# Altium schematic symbol library HIGH AMP IGBT DRIVER.SCHLIB: 72 symbols (part 1 of 2)
Pins are listed as number, name and electrical type; pins without a type are passive.

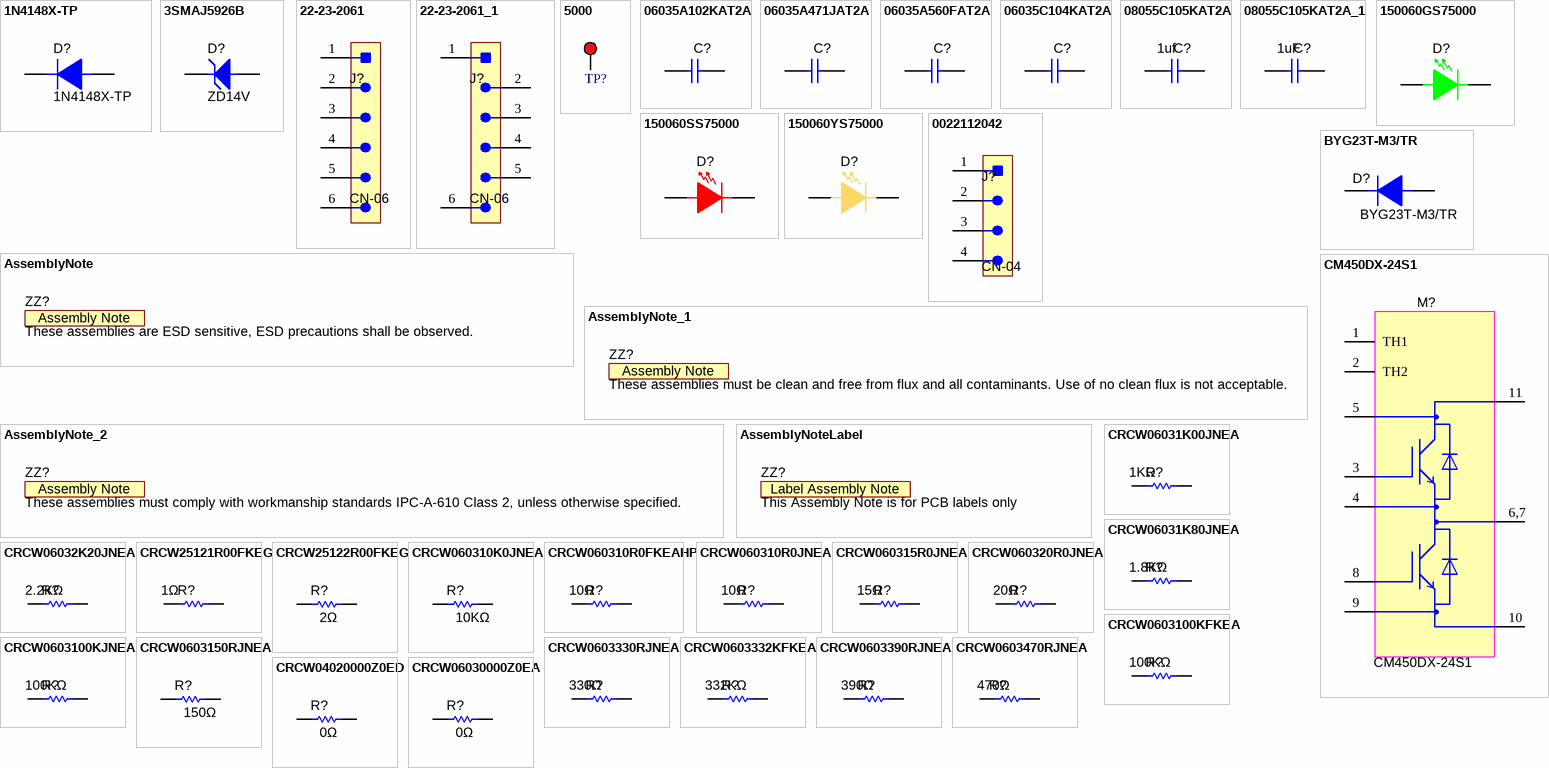
[diagram p0: symbols 1N4148X-TP to CRCW06030000Z0EA]

## 1N4148X-TP
designator D?
Diode, Switching, 75 V, 0.3 A, SOD-523; Manufacturer: Micro Commercial Components; U/M: EA; Vf_V: 1.25; Value: 75V; Value1: 0.3A; Value2: 1.25V; Io_A: 0.3; Vr_V: 75; TJmax_C: 150; SymbolVersion: 2008-12-08; PartNumber: 1N4148X-TP; PackageReference: SOD-523; CompType: Diode; MountType: SMT; Type: Switching; RoHS: Y; Published: 2008-06-26; Publisher: Texas Instruments; LatestRevisionDate: 2015-06-16; ComponentLink1Description: Datasheet link; ComponentLink1URL: http://www.mccsemi.com/up_pdf/1N4148X(SOD-523).PDF; Supplier 1: Digi-Key; Supplier Part Number 1: 1N4148XTPMSCT-ND; Supplier 2: Mouser; Supplier Part Number 2: 833-1N4148X-TP; Supplier 3: Newark; Supplier Part Number 3: 69R6666
signal-integrity model Diode
footprint SOD-523
pins: 1 K, 2 A

## 3SMAJ5926B
designator D?, comment ZD14V
Diode, Zener, 11 V, DO-214AC; PartNumber: SMAJ14CA; Manufacturer: Littelfuse Inc.; SymbolCreator: x0199378; SymbolVersion: 2015-06-17; CompType: Zener; MountType: SMT; RoHS: Y; ComponentLink1Description: Datasheet link; ComponentLink1URL: http://www.mccsemi.com/up_pdf/3SMAJ5913B~3SMAJ5943B%28DO-214AC%29.pdf
footprint SMA
pins: 1 K, 2 A

## 22-23-2061
designator J?, comment CN-06
Header, 2.54 mm, 6x1, Tin, TH; Manufacturer: Molex; SymbolCreator: a0412235; U/M: EA; SymbolVersion: 2013-08-30; PartNumber: 22-23-2061; PackageReference: Header, 2.54mm, 6x1, TH; ClassName: Header; CompType: Header; RoHS: Y; MountType: TH; ComponentLink1Description: Datasheet Link; ComponentLink1URL: http://www.molex.com/pdm_docs/sd/022232061_sd.pdf; Value: CN-06; Publisher: Texas Instruments; LatestRevisionDate: 2015-04-17; Supplier 1: Digi-Key; Supplier Part Number 1: WM4204-ND; Supplier 2: Mouser; Supplier Part Number 2: 538-22-23-2061; Supplier 3: Farnell; Supplier Part Number 3: 1462922
footprint Molex_22-23-2061
pins: 1, 2, 3, 4, 5, 6

## 22-23-2061_1
designator J?, comment CN-06
Header, 2.54 mm, 6x1, Tin, TH; Manufacturer: Molex; SymbolCreator: a0412235; U/M: EA; SymbolVersion: 2013-08-30; PartNumber: 22-23-2061; PackageReference: Header, 2.54mm, 6x1, TH; ClassName: Header; CompType: Header; RoHS: Y; MountType: TH; ComponentLink1Description: Datasheet Link; ComponentLink1URL: http://www.molex.com/pdm_docs/sd/022232061_sd.pdf; Value: CN-06; Publisher: Texas Instruments; LatestRevisionDate: 2015-04-17; Supplier 1: Digi-Key; Supplier Part Number 1: WM4204-ND; Supplier 2: Mouser; Supplier Part Number 2: 538-22-23-2061; Supplier 3: Farnell; Supplier Part Number 3: 1462922
footprint Molex_22-23-2061
pins: 1, 2, 3, 4, 5, 6

## 5000
designator TP?  (value not drawn)
Test Point, Miniature, Red, TH; Manufacturer: Keystone; CompType: Test Point Loop; U/M: EA; SymbolVersion: 2008-04-04; PartNumber: 5000; Value: Red; PackageReference: Red Miniature Testpoint; RoHS: Y; MountType: TH; ComponentLink1Description: Datasheet Link; ComponentLink1URL: http://www.keyelco.com/userAssets/file/M60-2p60.pdf; Publisher: Texas Instruments; LatestRevisionDate: 2014-11-22; Supplier 1: Digi-Key; Supplier Part Number 1: 5000K-ND
footprint Keystone5000
pins: 1

## 06035A102KAT2A
designator C?, comment 1000pF  (value not drawn)
CAP, CERM, 1000 pF, 50 V, +/- 10%, C0G/NP0, 0603; PartNumber: 06035A102KAT2A; Manufacturer: AVX; Polarized: N; CompType: Capacitor; Value: 50V 1000pF; U/M: EA; Cap_F: 0.000000001; Tolerance_%: 10; ESR_ohm: 0.048; Value1: 0.048 ohm; VDC_V: 50; Value2: 50V; TaMin_C: -55; TaMax_C: 125; Cap_Case: 0603; SymbolVersion: 2008-07-09; PackageReference: 0603; RoHS: Y; MountType: SMT; Technology: Ceramic; TempCo: C0G/NP0; Published: 2008-06-19; Publisher: Texas Instruments; LatestRevisionDate: 2015-04-23; ComponentLink1Description: Datasheet link; ComponentLink1URL: http://www.avx.com/docs/masterpubs/smccp.pdf; Supplier 1: Digi-Key; Supplier Part Number 1: 478-3718-1-ND; Supplier 2: Mouser; Supplier Part Number 2: 581-06035A102KAT2A; Supplier 3: Farnell; Supplier Part Number 3: 1582693
footprint 0603
pins: 1, 2

## 06035A471JAT2A
designator C?, comment 470pF  (value not drawn)
CAP, CERM, 470 pF, 50 V, +/- 5%, C0G/NP0, 0603; PartNumber: 06035A471JAT2A; Manufacturer: AVX; Polarized: N; CompType: Capacitor; Value: 50V 470pF; U/M: EA; Cap_F: 0.00000000047; Tolerance_%: 5; ESR_ohm: 0.063; Value1: 0.063 ohm; VDC_V: 50; Value2: 50V; TaMin_C: -55; TaMax_C: 125; Cap_Case: 0603; SymbolVersion: 2008-07-09; PackageReference: 0603; RoHS: Y; MountType: SMT; Technology: Ceramic; TempCo: C0G/NP0; Published: 2008-06-19; Publisher: Texas Instruments; LatestRevisionDate: 2015-06-13; ComponentLink1Description: Datasheet link; ComponentLink1URL: http://www.avx.com/docs/masterpubs/smccp.pdf; Supplier 1: Digi-Key; Supplier Part Number 1: 478-1183-1-ND; Supplier 2: Mouser; Supplier Part Number 2: 581-06035A471J; Supplier 3: Farnell; Supplier Part Number 3: 316672
footprint 0603
pins: 1, 2

## 06035A560FAT2A
designator C?, comment 56pF  (value not drawn)
CAP, CERM, 56 pF, 50 V, +/- 1%, C0G/NP0, 0603; PartNumber: 06035A560FAT2A; Manufacturer: AVX; Polarized: N; CompType: Capacitor; Value: 50V 56pF; U/M: EA; Cap_F: 0.000000000056; Tolerance_%: 1; Value1: Unknown; VDC_V: 50; Value2: 50V; TaMin_C: -55; TaMax_C: 125; Cap_Case: 0603; SymbolVersion: 2008-07-09; PackageReference: 0603; RoHS: Y; MountType: SMT; Technology: Ceramic; TempCo: C0G/NP0; Published: 2008-06-19; Publisher: Texas Instruments; LatestRevisionDate: 2015-06-13; ComponentLink1Description: Datasheet link; ComponentLink1URL: http://www.avx.com/docs/Catalogs/ccog.pdf; Supplier 1: Digi-Key; Supplier Part Number 1: 478-7922-1-ND; Supplier 2: Mouser; Supplier Part Number 2: 581-06035A560FAT2A; Supplier 3: Newark; Supplier Part Number 3: 11J1247
footprint 0603
pins: 1, 2

## 06035C104KAT2A
designator C?, comment 0.1 1uf  (value not drawn)
CAP, CERM, 0.1 µF, 50 V, +/- 10%, X7R, 0603; PartNumber: 06035C104KAT2A; Manufacturer: AVX; Polarized: N; CompType: Capacitor; Value: 50V 0.1uF; U/M: EA; Cap_F: 0.0000001; Tolerance_%: 10; Value1: Unknown; VDC_V: 50; Value2: 50V; TaMin_C: -55; TaMax_C: 125; Cap_Case: 0603; SymbolVersion: 2008-07-09; PackageReference: 0603; RoHS: Y; MountType: SMT; Technology: Ceramic; TempCo: X7R; Published: 2008-06-19; Publisher: Texas Instruments; LatestRevisionDate: 2015-04-23; ComponentLink1Description: Datasheet link; ComponentLink1URL: http://www.avx.com/docs/Catalogs/cx7r.pdf; Supplier 1: Digi-Key; Supplier Part Number 1: 478-5052-1-ND; Supplier 2: Mouser; Supplier Part Number 2: 581-06035C104KAT2A; Supplier 3: Farnell; Supplier Part Number 3: 1301804
footprint 0603
pins: 1, 2

## 08055C105KAT2A
designator C?, comment 1uf
CAP, CERM, 1 µF, 50 V, +/- 10%, X7R, 0805; PartNumber: 08055C105KAT2A; Manufacturer: AVX; Polarized: N; CompType: Capacitor; Value: 50V 1uF; U/M: EA; Cap_F: 0.000001; Tolerance_%: 10; Value1: Unknown; VDC_V: 50; Value2: 50V; TaMin_C: -55; TaMax_C: 125; Cap_Case: 0805; SymbolVersion: 2008-07-09; PackageReference: 0805; RoHS: Y; MountType: SMT; Technology: Ceramic; TempCo: X7R; Published: 2008-06-19; Publisher: Texas Instruments; LatestRevisionDate: 2015-05-02; ComponentLink1Description: Datasheet link; ComponentLink1URL: http://www.avx.com/docs/Catalogs/cx7r.pdf; Supplier 1: Digi-Key; Supplier Part Number 1: 478-7956-1-ND; Supplier 2: Mouser; Supplier Part Number 2: 581-08055C105KAT2A; Supplier 3: Farnell; Supplier Part Number 3: 2094043
footprint 0805_HV
pins: 1, 2

## 08055C105KAT2A_1
designator C?, comment 1uF
DNP; Manufacturer: AVX; Polarized: N; CompType: Capacitor; U/M: EA; Cap_F: 0.000001; Tolerance_%: 10; Value1: Unknown; VDC_V: 50; Value2: 50V; TempCo: X7R; TaMin_C: -55; TaMax_C: 125; Cap_Case: 0805; ValueDisplayed: 1µF; SymbolVersion: 2008-07-09; Value: 1uF; PartNumber: DNP; PackageReference: 0805; RoHS: Y; MountType: SMT; Technology: Ceramic; Published: 2008-06-19; Publisher: Texas Instruments; LatestRevisionDate: 2015-05-02; ComponentLink1Description: Datasheet link; ComponentLink1URL: http://www.avx.com/docs/Catalogs/cx7r.pdf; Supplier 1: Digi-Key; Supplier Part Number 1: 478-7956-1-ND; Supplier 2: Mouser; Supplier Part Number 2: 581-08055C105KAT2A; Supplier 3: Farnell; Supplier Part Number 3: 2094043
footprint 0805_HV
pins: 1, 2

## 150060GS75000
designator D?, comment LED  (value not drawn)
LED, Green, SMD; Manufacturer: Wurth Elektronik; PartNumber: 150060GS75000; Type: InGaN; Vf_V: 3.2; Value2: 3.2V; Io_A: 0.02; Tjmax_C: 85; Value1: W; Angle: 140; U/M: EA; CompType: LED; SymbolVersion: 2008-11-06; MountType: SMT; RoHS: Y; PackageReference: LED_0603; Color: Green; Published: 2008-07-11; Publisher: Texas Instruments; ComponentLink1URL: http://katalog.we-online.de/led/datasheet/150060GS75000.pdf; ComponentLink1Description: Datasheet link; LatestRevisionDate: 2015-04-23; Supplier 1: Digi-Key; Supplier Part Number 1: 732-4971-1-ND; Supplier 2: Mouser; Supplier Part Number 2: 710-150060GS75000; Supplier 3: Farnell; Supplier Part Number 3: 2322070; VALUE: Green
footprint WL-SMCW_GREEN
pins: 1 K, 2 A

## 150060SS75000
designator D?, comment LED  (value not drawn)
LED, Super Red, SMD; Manufacturer: Wurth Elektronik; PartNumber: 150060SS75000; Type: AlInGaP; Vf_V: 1.9; Value2: 1.9V; Io_A: 0.02; Value1: W; U/M: EA; CompType: LED; SymbolVersion: 2008-11-06; MountType: SMT; RoHS: Y; PackageReference: LED_0603; Color: super red; Published: 2008-07-11; Publisher: Texas Instruments; ComponentLink1URL: http://katalog.we-online.de/led/datasheet/150060SS75000.pdf; ComponentLink1Description: Datasheet link; LatestRevisionDate: 2015-04-23; Supplier 1: Digi-Key; Supplier Part Number 1: 732-4979-1-ND; VALUE: Super Red
footprint WL-SMCW_RED
pins: 1 K, 2 A

## 150060YS75000
designator D?, comment LED  (value not drawn)
LED, Yellow, SMD; Manufacturer: Wurth Elektronik; PartNumber: 150060YS75000; Type: AlInGaP; Vf_V: 2; Value2: 2V; Io_A: 0.02; Value1: W; U/M: EA; CompType: LED; SymbolVersion: 2008-11-06; MountType: SMT; RoHS: Y; PackageReference: LED_0603; Color: yellow; Published: 2008-07-11; Publisher: Texas Instruments; ComponentLink1URL: http://katalog.we-online.de/led/datasheet/150060YS75000.pdf; ComponentLink1Description: Datasheet link; LatestRevisionDate: 2015-04-23; Supplier 1: Digi-Key; Supplier Part Number 1: 732-4981-1-ND; VALUE: Yellow
footprint WL-SMCW_YELLOW
pins: 1 K, 2 A

## 0022112042
designator J?, comment CN-04
Header (friction lock), 100mil, 4x1, Gold, TH; PartNumber: 0022112042; Manufacturer: Molex; SymbolCreator: a0412235; U/M: EA; SymbolVersion: 2013-08-30; PackageReference: Header 4x1 keyed; CompType: Header; RoHS: Y; MountType: TH; ComponentLink1Description: Datasheet Link; ComponentLink1URL: http://www.molex.com/pdm_docs/sd/022112042_sd.pdf; Publisher: Texas Instruments; LatestRevisionDate: 2015-04-17; Supplier 1: Digi-Key; Supplier Part Number 1: WM2702-ND
footprint CONN_22112042
pins: 1, 2, 3, 4

## AssemblyNote
designator ZZ?, comment These assemblies are ESD sensitive, ESD precautions shall be observed.  (no BOM)
SymbolCreator: codlsc; CompType: AssemblyNote; SymbolVersion: 2010-05-18; ClassName: AssemblyNote; Publisher: Texas Instruments; LatestRevisionDate: 2012-06-14; LatestRevisionNote: Initial Version; Alternate Manufacturer: -; Alternate PartNumber: -
footprint AssemblyNote
text: Assembly Note

## AssemblyNote_1
designator ZZ?, comment These assemblies must be clean and free from flux and all contaminants. Use of no clean flux is not acceptable.  (no BOM)
SymbolCreator: codlsc; CompType: AssemblyNote; SymbolVersion: 2010-05-18; ClassName: AssemblyNote; Publisher: Texas Instruments; LatestRevisionDate: 2012-06-14; LatestRevisionNote: Initial Version; Alternate Manufacturer: -; Alternate PartNumber: -
footprint AssemblyNote
text: Assembly Note

## AssemblyNote_2
designator ZZ?, comment These assemblies must comply with workmanship standards IPC-A-610 Class 2, unless otherwise specified.  (no BOM)
SymbolCreator: codlsc; CompType: AssemblyNote; SymbolVersion: 2010-05-18; ClassName: AssemblyNote; Publisher: Texas Instruments; LatestRevisionDate: 2012-06-14; LatestRevisionNote: Initial Version; Alternate Manufacturer: -; Alternate PartNumber: -
footprint AssemblyNote
text: Assembly Note

## AssemblyNoteLabel
designator ZZ?, comment This Assembly Note is for PCB labels only  (no BOM)
SymbolCreator: a0412235; SymbolVersion: 2012-06-14; CompType: AssemblyNote; ClassName: AssemblyNote; Publisher: Texas Instruments; LatestRevisionDate: 2012-07-31; LatestRevisionNote: Initial Version; Alternate Manufacturer: -; Alternate PartNumber: -
footprint AssemblyNoteLabel
text: Label Assembly Note

## BYG23T-M3/TR
designator D?
Diode, Ultrafast, 1300 V, 1 A, SMA; Manufacturer: Vishay-Semiconductor; U/M: EA; Vf_V: 1.9; Value1: 1A; Value2: 1.9V; Io_A: 1; Vr_V: 1300; TJmax_C: 150; SymbolVersion: 2008-12-08; PartNumber: BYG23T-M3/TR; PackageReference: SMA; CompType: Diode; Value: Ultrafast; MountType: SMT; Type: Ultrafast; RoHS: Y; Published: 2008-06-26; Publisher: Texas Instruments; LatestRevisionDate: 2015-06-16; ComponentLink1Description: Datasheet link; ComponentLink1URL: http://www.vishay.com/docs/89429/byg23t.pdf; Supplier 1: Digi-Key; Supplier Part Number 1: BYG23T-M3/CT-ND; Supplier 2: Mouser; Supplier Part Number 2: 78-BYG23T-M3/TR; Supplier 3: Farnell; Supplier Part Number 3: 2115184
footprint SMA
pins: 1 K, 2 A

## CM450DX-24S1
designator M?
IGBT, MOD NX, 450A, 1200V, DUAL; Manufacturer: POWEREX INC; SymbolCreator: x0199378; PartNumber: CM450DX-24S1; MountType: TH; ComponentLink1Description: Datasheet link; ComponentLink1URL: http://www.pwrx.com/pwrx/docs/cm450dx-24s1_e.pdf; RoHS: Y; SymbolVersion: 2015-04-10
footprint MITSUBISHI_CM450DX-24S1
pins: 1 TH1, 2 TH2, 3 G1, 4 ES1, 5 CS1, 6,7 C2E1, 8 G2, 9 ES2, 10 E2, 11

## CRCW06031K00JNEA
designator R?, comment 1KΩ
RES, 1.0 k, 5%, 0.1 W, 0603; PartNumber: CRCW06031K00JNEA; Manufacturer: Vishay-Dale; CompType: Resistor; Value: 1.0k; Res_ohm: 1000; Value_Code: 1k00; Tolerance_%: 5; Power_W: 0.1; Value2: 0.1W; VDC_V: 75; TempCo: 200 ppm/C; EIA_Code: E24; U/M: EA; SymbolVersion: 2009-05-29; PackageReference: 0603; RoHS: Y; Value1: 5%; MountType: SMT; Technology: Thick Film; Published: 2008-06-26; Publisher: Texas Instruments; LatestRevisionDate: 2015-04-17; ComponentLink1Description: Datasheet link; ComponentLink1URL: http://www.vishay.com/docs/20035/dcrcwe3.pdf; Supplier 1: Digi-Key; Supplier Part Number 1: 541-1.0KGCT-ND; Supplier 2: Mouser; Supplier Part Number 2: 71-CRCW0603J-1.0K-E3; Supplier 3: Farnell; Supplier Part Number 3: 1652851; ValueDisplayed: 1.0k
footprint 0603
pins: 1, 2

## CRCW06031K80JNEA
designator R?, comment 1.8KΩ
RES, 1.8 k, 5%, 0.1 W, 0603; PartNumber: CRCW06031K80JNEA; Manufacturer: Vishay-Dale; CompType: Resistor; Value: 1.8k; Res_ohm: 1800; Value_Code: 1k80; Tolerance_%: 5; Power_W: 0.1; Value2: 0.1W; VDC_V: 75; TempCo: 200 ppm/C; EIA_Code: E24; U/M: EA; SymbolVersion: 2009-05-29; PackageReference: 0603; RoHS: Y; Value1: 5%; MountType: SMT; Technology: Thick Film; Published: 2008-06-26; Publisher: Texas Instruments; LatestRevisionDate: 2015-06-13; ComponentLink1Description: Datasheet link; ComponentLink1URL: http://www.vishay.com/docs/20035/dcrcwe3.pdf; Supplier 1: Digi-Key; Supplier Part Number 1: 541-1.8KGCT-ND; Supplier 2: Mouser; Supplier Part Number 2: 71-CRCW0603J-1.8K-E3; Supplier 3: Farnell; Supplier Part Number 3: 1514705; ValueDisplayed: 1.8k
footprint 0603
pins: 1, 2

## CRCW06032K20JNEA
designator R?, comment 2.2KΩ
RES, 2.2 k, 5%, 0.1 W, 0603; PartNumber: CRCW06032K20JNEA; Manufacturer: Vishay-Dale; CompType: Resistor; Value: 2.2k; Res_ohm: 2200; Value_Code: 2k20; Tolerance_%: 5; Power_W: 0.1; Value2: 0.1W; VDC_V: 75; TempCo: 200 ppm/C; EIA_Code: E24; U/M: EA; SymbolVersion: 2009-05-29; PackageReference: 0603; RoHS: Y; Value1: 5%; MountType: SMT; Technology: Thick Film; Published: 2008-06-26; Publisher: Texas Instruments; LatestRevisionDate: 2015-06-13; ComponentLink1Description: Datasheet link; ComponentLink1URL: http://www.vishay.com/docs/20035/dcrcwe3.pdf; Supplier 1: Digi-Key; Supplier Part Number 1: 541-2.2KGCT-ND; Supplier 2: Farnell; Supplier Part Number 2: 1652868; Supplier 3: Newark; Supplier Part Number 3: 59M6776; ValueDisplayed: 2.2k
footprint 0603
pins: 1, 2

## CRCW25121R00FKEG
designator R?, comment 1Ω
RES, 1.00, 1%, 1 W, 2512; PartNumber: CRCW25121R00FKEG; Manufacturer: Vishay-Dale; CompType: Resistor; Value: 1.00; Res_ohm: 1; Value_Code: 1R00; Value2: 1W; VDC_V: 500; TempCo: 100 ppm/C; EIA_Code: E96; U/M: EA; SymbolVersion: 2009-05-29; PackageReference: 2512; RoHS: Y; Tolerance_%: 1; Value1: 1%; Power_W: 1; MountType: SMT; Technology: Thick Film; Published: 2008-06-26; Publisher: Texas Instruments; LatestRevisionDate: 2015-04-21; ComponentLink1Description: Datasheet link; ComponentLink1URL: http://www.vishay.com/doc?20035; Supplier 1: Digi-Key; Supplier Part Number 1: 541-1.00AAFCT-ND; ValueDisplayed: 1.00
footprint 2512
pins: 1, 2

## CRCW25122R00FKEG
designator R?, comment 2Ω
RES, 2.00, 1%, 1 W, 2512; PartNumber: CRCW25122R00FKEG; Manufacturer: Vishay-Dale; CompType: Resistor; Value: 2.00; Res_ohm: 2; Value_Code: 2R00; Tolerance_%: 1; Value2: 1W; VDC_V: 500; TempCo: 100 ppm/C; EIA_Code: E96; U/M: EA; SymbolVersion: 2009-05-29; PackageReference: 2512; RoHS: Y; Value1: 1%; Power_W: 1; MountType: SMT; Technology: Thick Film; Published: 2008-06-26; Publisher: Texas Instruments; LatestRevisionDate: 2015-04-21; ComponentLink1Description: Datasheet link; ComponentLink1URL: http://www.vishay.com/doc?20035; Supplier 1: Digi-Key; Supplier Part Number 1: 541-2.00AFCT-ND; ValueDisplayed: 2.00
footprint 2512
pins: 1, 2

## CRCW060310K0JNEA
designator R?, comment 10KΩ
RES, 10 k, 5%, 0.1 W, 0603; PartNumber: CRCW060310K0JNEA; Manufacturer: Vishay-Dale; CompType: Resistor; Value: 10k; Res_ohm: 10000; Value_Code: 10k0; Tolerance_%: 5; Power_W: 0.1; Value2: 0.1W; VDC_V: 75; TempCo: 200 ppm/C; EIA_Code: E24; U/M: EA; SymbolVersion: 2009-05-29; PackageReference: 0603; RoHS: Y; Value1: 5%; MountType: SMT; Technology: Thick Film; Published: 2008-06-26; Publisher: Texas Instruments; LatestRevisionDate: 2015-04-17; ComponentLink1Description: Datasheet link; ComponentLink1URL: http://www.vishay.com/docs/20035/dcrcwe3.pdf; Supplier 1: Digi-Key; Supplier Part Number 1: 541-10KGCT-ND; Supplier 2: Mouser; Supplier Part Number 2: 71-CRCW0603J-10K-E3; Supplier 3: Farnell; Supplier Part Number 3: 1469749; ValueDisplayed: 10k
footprint 0603
pins: 1, 2

## CRCW060310R0FKEAHP
designator R?, comment 10Ω
RES, 10.0, 1%, 0.25 W, 0603; PartNumber: CRCW060310R0FKEAHP; Manufacturer: Vishay-Dale; CompType: Resistor; Value: 10.0; Res_ohm: 10; Value_Code: 10R0; Tolerance_%: 1; Power_W: 0.25; Value2: 0.25W; VDC_V: 75; TempCo: 100 ppm/C; EIA_Code: E96; U/M: EA; SymbolVersion: 2009-05-29; PackageReference: 0603; RoHS: Y; Value1: 1%; MountType: SMT; Technology: Thick Film; Published: 2008-06-26; Publisher: Texas Instruments; LatestRevisionDate: 2015-06-13; ComponentLink1Description: Datasheet link; ComponentLink1URL: http://www.vishay.com/docs/20043/crcwhpe3.pdf; Supplier 1: Digi-Key; Supplier Part Number 1: 541-10.0SCT-ND; Supplier 2: Mouser; Supplier Part Number 2: 71-CRCW060310R0FKEAH; ValueDisplayed: 10.0
footprint 0603
pins: 1, 2

## CRCW060310R0JNEA
designator R?, comment 10Ω
RES, 10, 5%, 0.1 W, 0603; PartNumber: CRCW060310R0JNEA; Manufacturer: Vishay-Dale; CompType: Resistor; Value: 10; Value_Code: 10R0; Tolerance_%: 5; Power_W: 0.1; Value2: 0.1W; VDC_V: 75; TempCo: 200 ppm/C; EIA_Code: E24; U/M: EA; SymbolVersion: 2009-05-29; PackageReference: 0603; RoHS: Y; Res_ohm: 10; Value1: 5%; MountType: SMT; Technology: Thick Film; Published: 2008-06-26; Publisher: Texas Instruments; LatestRevisionDate: 2015-06-13; ComponentLink1Description: Datasheet link; ComponentLink1URL: http://www.vishay.com/docs/20035/dcrcwe3.pdf; Supplier 1: Digi-Key; Supplier Part Number 1: 541-10GCT-ND; Supplier 2: Mouser; Supplier Part Number 2: 71-CRCW0603J-10-E3; Supplier 3: Farnell; Supplier Part Number 3: 1514712; ValueDisplayed: 10
footprint 0603
pins: 1, 2

## CRCW060315R0JNEA
designator R?, comment 15Ω
RES, 15, 5%, 0.1 W, 0603; PartNumber: CRCW060315R0JNEA; Manufacturer: Vishay-Dale; CompType: Resistor; Value: 15; Value_Code: 15R0; Tolerance_%: 5; Power_W: 0.1; Value2: 0.1W; VDC_V: 75; TempCo: 200 ppm/C; EIA_Code: E24; U/M: EA; SymbolVersion: 2009-05-29; PackageReference: 0603; RoHS: Y; Res_ohm: 15; Value1: 5%; MountType: SMT; Technology: Thick Film; Published: 2008-06-26; Publisher: Texas Instruments; LatestRevisionDate: 2015-06-13; ComponentLink1Description: Datasheet link; ComponentLink1URL: http://www.vishay.com/docs/20035/dcrcwe3.pdf; Supplier 1: Digi-Key; Supplier Part Number 1: 541-15GCT-ND; Supplier 2: Mouser; Supplier Part Number 2: 71-CRCW0603J-15-E3; Supplier 3: Farnell; Supplier Part Number 3: 1514720; ValueDisplayed: 15
footprint 0603
pins: 1, 2

## CRCW060320R0JNEA
designator R?, comment 20Ω
RES, 20, 5%, 0.1 W, 0603; PartNumber: CRCW060320R0JNEA; Manufacturer: Vishay-Dale; CompType: Resistor; Value: 20; Value_Code: 20R0; Tolerance_%: 5; Power_W: 0.1; Value2: 0.1W; VDC_V: 75; TempCo: 200 ppm/C; EIA_Code: E24; U/M: EA; SymbolVersion: 2009-05-29; PackageReference: 0603; RoHS: Y; Res_ohm: 20; Value1: 5%; MountType: SMT; Technology: Thick Film; Published: 2008-06-26; Publisher: Texas Instruments; LatestRevisionDate: 2015-04-17; ComponentLink1Description: Datasheet link; ComponentLink1URL: http://www.vishay.com/docs/20035/dcrcwe3.pdf; Supplier 1: Digi-Key; Supplier Part Number 1: 541-20GCT-ND; Supplier 2: Mouser; Supplier Part Number 2: 71-CRCW0603J-20-E3; Supplier 3: Farnell; Supplier Part Number 3: 1514735; ValueDisplayed: 20
footprint 0603
pins: 1, 2

## CRCW0603100KFKEA
designator R?, comment 100KΩ
RES, 100 k, 1%, 0.1 W, 0603; PartNumber: CRCW0603100KFKEA; Manufacturer: Vishay-Dale; CompType: Resistor; Value: 100k; Res_ohm: 100000; Tolerance_%: 1; Power_W: 0.1; Value2: 0.1W; VDC_V: 75; TempCo: 100 ppm/C; EIA_Code: E96; U/M: EA; SymbolVersion: 2009-05-29; PackageReference: 0603; RoHS: Y; Value_Code: 100k; Value1: 1%; MountType: SMT; Technology: Thick Film; Published: 2008-06-26; Publisher: Texas Instruments; LatestRevisionDate: 2015-04-17; ComponentLink1Description: Datasheet link; ComponentLink1URL: http://www.vishay.com/docs/20035/dcrcwe3.pdf; Supplier 1: Digi-Key; Supplier Part Number 1: 541-100KHCT-ND; Supplier 2: Mouser; Supplier Part Number 2: 71-CRCW0603-100K-E3; Supplier 3: Farnell; Supplier Part Number 3: 1469649; ValueDisplayed: 100k
footprint 0603
pins: 1, 2

## CRCW0603100KJNEA
designator R?, comment 100KΩ
RES, 100 k, 5%, 0.1 W, 0603; PartNumber: CRCW0603100KJNEA; Manufacturer: Vishay-Dale; CompType: Resistor; Res_ohm: 100000; Value_Code: 100k; Tolerance_%: 5; Power_W: 0.1; Value2: 0.1W; VDC_V: 75; TempCo: 200 ppm/C; EIA_Code: E24; U/M: EA; SymbolVersion: 2009-05-29; Value: 100KΩ; PackageReference: 0603; RoHS: Y; Value1: 5%; MountType: SMT; Technology: Thick Film; Published: 2008-06-26; Publisher: Texas Instruments; LatestRevisionDate: 2015-04-06; ComponentLink1Description: Datasheet link; ComponentLink1URL: http://www.vishay.com/docs/20035/dcrcwe3.pdf; Supplier 1: Digi-Key; Supplier Part Number 1: 541-100KGCT-ND; Supplier 2: Mouser; Supplier Part Number 2: 71-CRCW0603J-100K-E3; Supplier 3: Farnell; Supplier Part Number 3: 1692517
footprint 0603
pins: 1, 2

## CRCW0603150RJNEA
designator R?, comment 150Ω
RES, 150, 5%, 0.1 W, 0603; PartNumber: CRCW0603150RJNEA; Manufacturer: Vishay-Dale; CompType: Resistor; Value: 150; Value_Code: 150R; Tolerance_%: 5; Power_W: 0.1; Value2: 0.1W; VDC_V: 75; TempCo: 200 ppm/C; EIA_Code: E24; U/M: EA; SymbolVersion: 2009-05-29; PackageReference: 0603; RoHS: Y; Res_ohm: 150; Value1: 5%; MountType: SMT; Technology: Thick Film; Published: 2008-06-26; Publisher: Texas Instruments; LatestRevisionDate: 2015-06-13; ComponentLink1Description: Datasheet link; ComponentLink1URL: http://www.vishay.com/docs/20035/dcrcwe3.pdf; Supplier 1: Digi-Key; Supplier Part Number 1: 541-150GCT-ND; Supplier 2: Mouser; Supplier Part Number 2: 71-CRCW0603J-150-E3; Supplier 3: Farnell; Supplier Part Number 3: 1514722; ValueDisplayed: 150
footprint 0603
pins: 1, 2

## CRCW0603330RJNEA
designator R?, comment 330Ω
RES, 330, 5%, 0.1 W, 0603; PartNumber: CRCW0603330RJNEA; Manufacturer: Vishay-Dale; CompType: Resistor; Value: 330; Value_Code: 330R; Tolerance_%: 5; Power_W: 0.1; Value2: 0.1W; VDC_V: 75; TempCo: 200 ppm/C; EIA_Code: E24; U/M: EA; SymbolVersion: 2009-05-29; PackageReference: 0603; RoHS: Y; Res_ohm: 330; Value1: 5%; MountType: SMT; Technology: Thick Film; Published: 2008-06-26; Publisher: Texas Instruments; LatestRevisionDate: 2015-04-17; ComponentLink1Description: Datasheet link; ComponentLink1URL: http://www.vishay.com/docs/20035/dcrcwe3.pdf; Supplier 1: Digi-Key; Supplier Part Number 1: 541-330GCT-ND; Supplier 2: Mouser; Supplier Part Number 2: 71-CRCW0603J-330-E3; Supplier 3: Farnell; Supplier Part Number 3: 1692522; ValueDisplayed: 330
footprint 0603
pins: 1, 2

## CRCW0603332KFKEA
designator R?, comment 332KΩ
RES, 332 k, 1%, 0.1 W, 0603; PartNumber: CRCW0603332KFKEA; Manufacturer: Vishay-Dale; CompType: Resistor; Value: 332k; Res_ohm: 332000; Tolerance_%: 1; Power_W: 0.1; Value2: 0.1W; VDC_V: 75; TempCo: 100 ppm/C; EIA_Code: E96; U/M: EA; SymbolVersion: 2009-05-29; PackageReference: 0603; RoHS: Y; Value_Code: 332k; Value1: 1%; MountType: SMT; Technology: Thick Film; Published: 2008-06-26; Publisher: Texas Instruments; LatestRevisionDate: 2015-04-17; ComponentLink1Description: Datasheet link; ComponentLink1URL: http://www.vishay.com/docs/20035/dcrcwe3.pdf; Supplier 1: Digi-Key; Supplier Part Number 1: 541-332KHCT-ND; Supplier 2: Mouser; Supplier Part Number 2: 71-CRCW0603-332K-E3; Supplier 3: Farnell; Supplier Part Number 3: 1151950; ValueDisplayed: 332k
footprint 0603
pins: 1, 2

## CRCW0603390RJNEA
designator R?, comment 390Ω
RES, 390, 5%, 0.1 W, 0603; PartNumber: CRCW0603390RJNEA; Manufacturer: Vishay-Dale; CompType: Resistor; Value: 390; Value_Code: 390R; Tolerance_%: 5; Power_W: 0.1; Value2: 0.1W; VDC_V: 75; TempCo: 200 ppm/C; EIA_Code: E24; U/M: EA; SymbolVersion: 2009-05-29; PackageReference: 0603; RoHS: Y; Res_ohm: 390; Value1: 5%; MountType: SMT; Technology: Thick Film; Published: 2008-06-26; Publisher: Texas Instruments; LatestRevisionDate: 2015-06-13; ComponentLink1Description: Datasheet link; ComponentLink1URL: http://www.vishay.com/docs/20035/dcrcwe3.pdf; Supplier 1: Digi-Key; Supplier Part Number 1: 541-390GCT-ND; Supplier 2: Mouser; Supplier Part Number 2: 71-CRCW0603J-390-E3; Supplier 3: Farnell; Supplier Part Number 3: 1739156; ValueDisplayed: 390
footprint 0603
pins: 1, 2

## CRCW0603470RJNEA
designator R?, comment 470Ω
RES, 470, 5%, 0.1 W, 0603; PartNumber: CRCW0603470RJNEA; Manufacturer: Vishay-Dale; CompType: Resistor; Value: 470; Value_Code: 470R; Tolerance_%: 5; Power_W: 0.1; Value2: 0.1W; VDC_V: 75; TempCo: 200 ppm/C; EIA_Code: E24; U/M: EA; SymbolVersion: 2009-05-29; PackageReference: 0603; RoHS: Y; Res_ohm: 470; Value1: 5%; MountType: SMT; Technology: Thick Film; Published: 2008-06-26; Publisher: Texas Instruments; LatestRevisionDate: 2015-04-17; ComponentLink1Description: Datasheet link; ComponentLink1URL: http://www.vishay.com/docs/20035/dcrcwe3.pdf; Supplier 1: Digi-Key; Supplier Part Number 1: 541-470GCT-ND; Supplier 2: Mouser; Supplier Part Number 2: 71-CRCW0603J-470-E3; Supplier 3: Farnell; Supplier Part Number 3: 1692528; ValueDisplayed: 470
footprint 0603
pins: 1, 2

## CRCW04020000Z0ED
designator R?, comment 0Ω
RES, 0, 5%, 0.063 W, 0402; PartNumber: CRCW04020000Z0ED; Manufacturer: Vishay-Dale; CompType: Resistor; Value: 0; Value_Code: 0000; Tolerance_%: 5; Power_W: 0.063; Value2: 0.063W; VDC_V: 50; TempCo: 200 ppm/C; EIA_Code: E24; U/M: EA; SymbolVersion: 2009-05-29; PackageReference: 0402; RoHS: Y; Res_ohm: 0; Value1: 5%; MountType: SMT; Technology: Thick Film; Published: 2008-06-26; Publisher: Texas Instruments; LatestRevisionDate: 2015-06-13; ComponentLink1Description: Datasheet link; ComponentLink1URL: http://www.vishay.com/docs/20035/dcrcwe3.pdf; Supplier 1: Digi-Key; Supplier Part Number 1: 541-0.0JCT-ND; Supplier 2: Mouser; Supplier Part Number 2: 71-CRCW0402-0-E3; Supplier 3: Farnell; Supplier Part Number 3: 1469661; ValueDisplayed: 0
footprint 0402
pins: 1, 2

## CRCW06030000Z0EA
designator R?, comment 0Ω
RES, 0, 5%, 0.1 W, 0603; PartNumber: CRCW06030000Z0EA; Manufacturer: Vishay-Dale; CompType: Resistor; Res_ohm: 0; Value_Code: 0000; Tolerance_%: 5; Power_W: 0.1; Value2: 0.1W; VDC_V: 75; TempCo: 200 ppm/C; EIA_Code: E24; U/M: EA; SymbolVersion: 2009-05-29; Value: 0Ω; PackageReference: 0603; RoHS: Y; Value1: 5%; MountType: SMT; Technology: Thick Film; Published: 2008-06-26; Publisher: Texas Instruments; LatestRevisionDate: 2015-05-02; ComponentLink1Description: Datasheet link; ComponentLink1URL: http://www.vishay.com/docs/20035/dcrcwe3.pdf; Supplier 1: Digi-Key; Supplier Part Number 1: 541-0.0GCT-ND; Supplier 2: Mouser; Supplier Part Number 2: 71-CRCW0603-0-E3; Supplier 3: Farnell; Supplier Part Number 3: 1469739; ValueDisplayed: 0
footprint 0603
pins: 1, 2

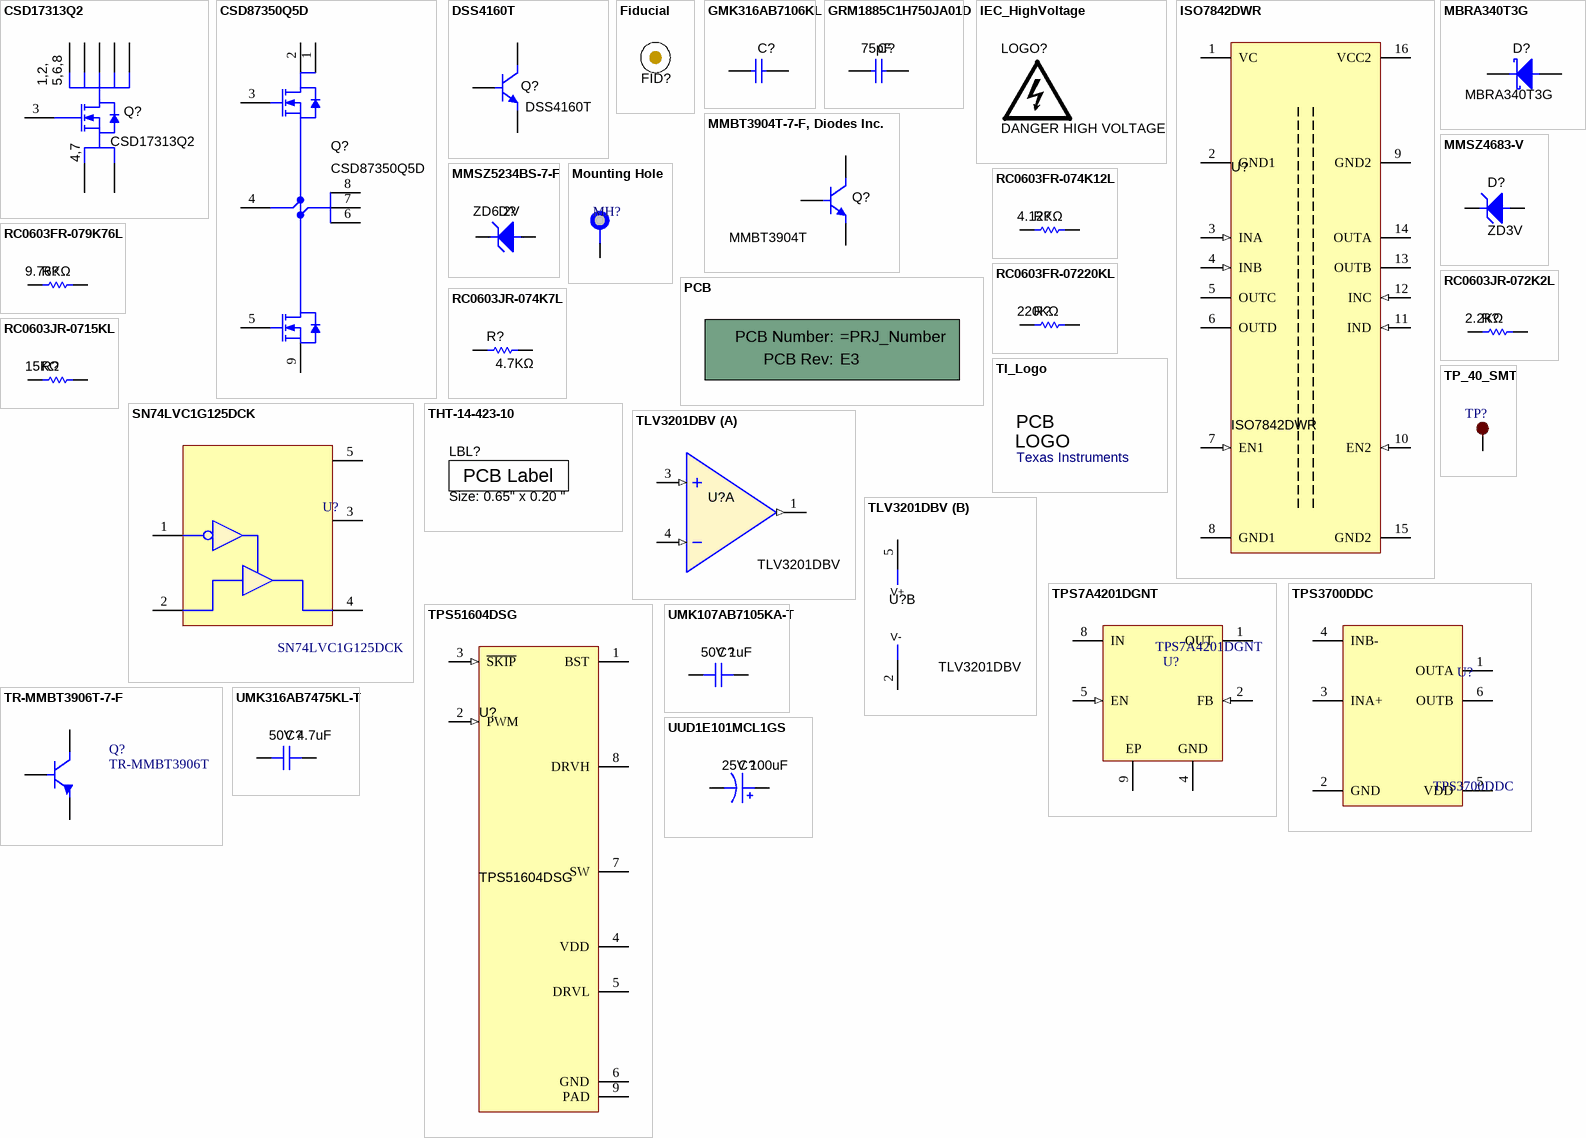
[diagram p1: symbols CSD17313Q2 to UUD1E101MCL1GS]

## CSD17313Q2
designator Q?
MOSFET, N-CH, 30 V, 5 A, SON 2x2mm; Manufacturer: Texas Instruments; Alternate Manufacturer: None; U/M: EA; ChType: N; Value: N-MOSFET; VdsMax_V: 30; Value1: 0.026 ohm; Rdson45_ohm: 0.026; Value2: 2.1 nC; QgTyp_nC: 2.1; Vgs_V: 10; IdsMax_A: 5; SymbolVersion: 2011-11-14; CompType: MOSFET; PartNumber: CSD17313Q2; PackageReference: SON 2x2mm; RoHS: Y; MountType: SMT; Published: 2008-06-19; Publisher: Texas Instruments; LatestRevisionDate: 2015-04-24; LatestRevisionNote: Added parts.; ComponentLink1Description: Datasheet link; ComponentLink1URL: http://www.ti.com/lit/ds/symlink/csd17313q2.pdf; Supplier 1: Digi-Key; Supplier Part Number 1: 296-27233-1-ND; Supplier 2: Mouser; Supplier Part Number 2: 595-CSD17313Q2; Supplier 3: Farnell; Supplier Part Number 3: 1863737
footprint TRANS_NexFET_Q2
footprint TRANS_CSD17313Q2
pins: 1 D, 2 D, 3 G, 4 S, 5 D, 6 D, 7 S, 8 D
text: 1,2,; 5,6,8; 4,7

## CSD87350Q5D
designator Q?
Synchronous Buck NexFET Power Block, DQY0008A; PartNumber: CSD87353Q5D; Manufacturer: Texas Instruments; SymbolCreator: a0799628; CompType: IC; U/M: EA; Value: SYN MOSFET; SymbolVersion: 2014-11-03; PackageReference: DQY0008A; MountType: SMT; ComponentLink1Description: Datasheet Link; ComponentLink1URL: http://www.ti.com/lit/ds/symlink/csd87353q5d.pdf; RoHS: Y; Publisher: Texas Instruments; LatestRevisionDate: 2015-05-04; Alternate Manufacturer: Texas Instruments
footprint DQY0008A
pins: 1 VIN, 2 VIN, 3 TG, 4 TGR, 5 BG, 6 VSW, 7 VSW, 8 VSW, 9 PGND
1 alternate drawing of the same symbol

## DSS4160T
designator Q?
TRANSISTOR, NPN, 60V, 1A, SOT23-3; Manufacturer: DIODES INCORPORATED; CompType: Bipolar Transistor; SymbolCreator: x0199378; SymbolVersion: 2015-06-17; PartNumber: DSS4160T; RoHS: Y; MountType: SMT; ComponentLink1Description: Datasheet Link; ComponentLink1URL: http://www.diodes.com/datasheets/DSS4160T.pdf; Value: NPN
footprint FP-SOT23-IPC_A
footprint FP-SOT23-MFG
footprint FP-SOT23-IPC_B
footprint FP-SOT23-IPC_C
footprint SOT-23
pins: 1 B, 2 E, 3 C

## Fiducial
designator FID?  (value not drawn)
Fiducial mark.  There is nothing to buy or mount.; SymbolCreator: codlsc; SymbolVersion: 2009-11-4; CompType: Fiducial; Publisher: Texas Instruments; LatestRevisionDate: 2014-08-01; LatestRevisionNote: Added Alternate PartNumber and Alternate Manufacturer parameters to appropriate components.; Manufacturer: N/A; MountType: N/A; PackageReference: Fiducial; PartNumber: N/A; ClassName: FiducialMark
footprint Fiducial10-20

## GMK316AB7106KL
designator C?, comment 35V 10uF  (value not drawn)
CAP, CERM, 10 µF, 35 V, +/- 10%, X7R, 1206; PartNumber: GMK316AB7106KL; Manufacturer: Taiyo Yuden; Polarized: N; CompType: Capacitor; U/M: EA; Cap_F: 0.00001; Tolerance_%: 10; Value1: Unknown; VDC_V: 35; TaMin_C: -55; TaMax_C: 125; Cap_Case: 1206; ValueDisplayed: 10µF; SymbolVersion: 2008-07-09; Value: 10uF; PackageReference: 1206; RoHS: Y; Value2: 35V; MountType: SMT; Technology: Ceramic; TempCo: X7R; Published: 2008-06-19; Publisher: Texas Instruments; LatestRevisionDate: 2015-04-23; ComponentLink1Description: Datasheet link; ComponentLink1URL: http://www.yuden.co.jp/productdata/catalog/en/mlcc101_e.pdf; Supplier 1: Digi-Key; Supplier Part Number 1: 587-3007-1-ND; Supplier 2: Mouser; Supplier Part Number 2: 963-GMK316AB7106KL; Supplier 3: Farnell; Supplier Part Number 3: 2309034
footprint 1206
pins: 1, 2

## GRM1885C1H750JA01D
designator C?, comment 75pF
CAP, CERM, 75 pF, 50 V, +/- 5%, C0G/NP0, 0603; PartNumber: GRM1885C1H750JA01D; Manufacturer: MuRata; Polarized: N; CompType: Capacitor; U/M: EA; Cap_F: 0.000000000075; Tolerance_%: 5; Value1: Unknown; VDC_V: 50; Value2: 50V; TaMin_C: -55; TaMax_C: 125; Cap_Case: 0603; SymbolVersion: 2008-07-09; Value: 75pF; PackageReference: 0603; RoHS: Y; MountType: SMT; Technology: Ceramic; TempCo: C0G/NP0; Published: 2008-06-19; Publisher: Texas Instruments; LatestRevisionDate: 2015-06-13; ComponentLink1Description: Datasheet link; ComponentLink1URL: http://search.murata.co.jp/Ceramy/PnsearchViewAction.do?HnOFG=ON&HnNFG=ON&SEL_CNT=50&sLang=en&sKey=GRM1885C1H750JA01D&x=9&y=9&search=startwith; Supplier 1: Digi-Key; Supplier Part Number 1: 490-1424-1-ND; Supplier 2: Mouser; Supplier Part Number 2: 81-GRM1885C1H750JA; Supplier 3: Farnell; Supplier Part Number 3: 1690399; ValueDisplayed: 75pF
footprint 0603
pins: 1, 2

## IEC_HighVoltage
designator LOGO?, comment DANGER HIGH VOLTAGE  (no BOM)
IEC 61010-1 High Voltage Warning; SymbolCreator: a0412235; SymbolVersion: 2011-08-22; Published: 2009-03-03; Publisher: Texas Instruments; LatestRevisionDate: 2014-11-20
footprint IEC_HighVoltage_Small

## ISO7842DWR
designator U?
High-Performance, 8000 VPK Reinforced Quad Channel Digital Isolator, DW0016B; Manufacturer: Texas Instruments; SymbolCreator: Altium; CompType: IC; U/M: EA; SymbolVerison: 2014-12-19; PartNumber: ISO7842DWR; Alternate PartNumber: ISO7842DW; PackageReference: DW0016B; MountType: SMT; ComponentLink1Description: Datasheet Link; ComponentLink1URL: http://www.ti.com/lit/ds/symlink/iso7842.pdf; RoHS: Y; Publisher: Texas Instruments; LatestRevisionDate: 2015-04-24; Alternate Manufacturer: Texas Instruments
footprint DW0016B_N
pins: 1 VC (power) "Power supply, VCC1", 2 GND1 (power) "Ground connection for VCC1", 3 INA (in) "Input, channel A", 4 INB (in) "Input, channel B", 5 OUTC (hiz) "Output, channel C", 6 OUTD (hiz) "Output, channel D", 7 EN1 (in) "Output enable", 8 GND1 (power) "Ground connection for VCC1", 9 GND2 (power) "Ground connection for VCC2", 10 EN2 (in) "Output enable", 11 IND (in) "Input, channel D", 12 INC (in) "Input, channel C", 13 OUTB (hiz) "Output, channel B", 14 OUTA (hiz) "Output, channel A", 15 GND2 (power) "Ground connection for VCC2", 16 VCC2 (power) "Power supply, VCC2"

## MBRA340T3G
designator D?
Diode, Schottky, 40 V, 3 A, SMA; Manufacturer: ON Semiconductor; U/M: EA; Vf_V: 0.415; Value1: 3A; Value2: 0.415V; Io_A: 3; Vr_V: 40; RJC_CperW: 15; CompType: Diode; SymbolVersion: 2008-12-08; PartNumber: MBRA340T3G; PackageReference: SMA; Value: Schottky; MountType: SMT; Type: Schottky; Published: 2008-06-26; Publisher: Texas Instruments; LatestRevisionDate: 2015-04-26; ComponentLink1Description: Datasheet link; ComponentLink1URL: http://www.onsemi.com/pub_link/Collateral/MBRA340T3-D.PDF; Supplier 1: Farnell; Supplier Part Number 1: 1431078
footprint SMA
pins: 1 K, 2 A

## MMBT3904T-7-F, Diodes Inc.
designator Q?, comment MMBT3904T
Transistor, NPN, 40 V, 0.2 A, SOT-523; PartNumber: MMBT3904T-7-F; Manufacturer: Diodes Inc.; CompType: BJT; PNP: 0; NPN: 1; Vceo_V: 40; Vcesat1_V: 0.2; Value1: 0.2 A; HfeMax: 300; TaMin_C: -55; TaMax_C: 150; U/M: EA; SymbolVersion: 2008-07-31; PackageReference: SOT-523; RoHS: Y; Value: NPN; IcRated_A: 0.2; Value2: 300; Published: 2008-07-31; LatestRevisionDate: 2015-04-22; Publisher: Texas Instruments; ComponentLink1Description: Datasheet link; ComponentLink1URL: http://www.diodes.com/datasheets/ds30270.pdf; Supplier 1: Digi-Key; Supplier Part Number 1: MMBT3904T-FDICT-ND; Supplier 2: Mouser; Supplier Part Number 2: 621-MMBT3904T-F; Supplier 3: Farnell; Supplier Part Number 3: 1773615; MountType: SMT
footprint SOT-523
footprint SOT-523_2
pins: 1 B, 2 E, 3 C

## MMSZ4683-V
designator D?, comment ZD3V
Diode, Zener, 3 V, 500 mW, SOD-123; PartNumber: MMSZ4683-V; Manufacturer: Vishay-Semiconductor; SymbolCreator: a0412235; U/M: EA; Power_W: 0.5; Vz_V: 3; Value1: 0.5W; RJA_CperW: 67; SymbolVersion: 2010-08-25; PackageReference: SOD-123; CompType: Zener; Vr_V: N/A; MountType: SMT; RoHS: Y; ComponentLink1Description: Datasheet link; ComponentLink1URL: http://www.vishay.com/docs/85773/mmsz4681.pdf; Published: 2008-10-08; Publisher: Texas Instruments; LatestRevisionDate: 2015-03-27; LatestRevisionNote: Updated Supplier Data; Supplier 1: Newark; Supplier Part Number 1: 69R4754; Value: ZD3V
footprint SOD-123
pins: 1 K, 2 A

## MMSZ5234BS-7-F
designator D?, comment ZD6.2V
Diode, Zener, 6.2 V, 200 mW, SOD-323; PartNumber: MMSZ5234BS-7-F; Manufacturer: Diodes Inc.; SymbolCreator: a0412235; U/M: EA; Power_W: 0.2; Vz_V: 6.2; Value1: 0.2W; RJA_CperW: 350; SymbolVersion: 2010-08-25; PackageReference: SOD-323; CompType: Zener; Vr_V: N/A; MountType: SMT; RoHS: Y; ComponentLink1Description: Datasheet link; ComponentLink1URL: http://www.diodes.com/datasheets/ds31038.pdf; Published: 2008-10-08; Publisher: Texas Instruments; LatestRevisionDate: 2015-06-15; LatestRevisionNote: Updated Supplier Data; Supplier 1: Digi-Key; Supplier Part Number 1: MMSZ5234BS-FDICT-ND; Supplier 2: Mouser; Supplier Part Number 2: 621-MMSZ5234BS-F; Value: ZD6.2V
footprint sod-323
pins: 1 K, 2 A

## Mounting Hole
designator MH?, comment MH  (value not drawn)
footprint Mounting Hole
pins: 1

## PCB
designator !PCB?, comment Printed Circuit Board  (value not drawn)  (mechanical)
Manufacturer: Any; SymbolCreator: a0412235; CompType: PCB; SymbolVersion: 2012-05-30; PartNumber: =PRJ_Number; RoHS: O; MountType: N/A; Publisher: Texas Instruments; LatestRevisionDate: 2012-06-27; LatestRevisionNote: Initial Version; Alternate Manufacturer: -; Alternate PartNumber: -
1 alternate drawing of the same symbol
text: PCB Number:; PCB Rev:; E3

## RC0603FR-074K12L
designator R?, comment 4.12KΩ
RES, 4.12 k, 1%, 0.1 W, 0603; PartNumber: RC0603FR-074K12L; Manufacturer: Yageo America; CompType: Resistor; Value: 4.12k; Res_ohm: 4120; Value_Code: 4k12; Tolerance_%: 1; Power_W: 0.1; Value2: 0.1W; VDC_V: 150; TempCo: 200 ppm/C; EIA_Code: E96; U/M: EA; SymbolVersion: 2009-05-29; PackageReference: 0603; RoHS: Y; Value1: 1%; MountType: SMT; Technology: Thick Film; Published: 2008-06-26; Publisher: Texas Instruments; LatestRevisionDate: 2015-04-17; ComponentLink1Description: Datasheet link; ComponentLink1URL: http://www.yageo.com/pdf/Pu-RC0603_51_PbFree_L_2.pdf; Supplier 1: Digi-Key; Supplier Part Number 1: 311-4.12KHRCT-ND; Supplier 2: Mouser; Supplier Part Number 2: 603-RC0603FR-074K12L; Supplier 3: Farnell; Supplier Part Number 3: 9238565
footprint 0603
pins: 1, 2

## RC0603FR-079K76L
designator R?, comment 9.76KΩ
RES, 9.76 k, 1%, 0.1 W, 0603; PartNumber: RC0603FR-079K76L; Manufacturer: Yageo America; CompType: Resistor; Value: 9.76k; Res_ohm: 9760; Value_Code: 9k76; Tolerance_%: 1; Power_W: 0.1; Value2: 0.1W; VDC_V: 150; TempCo: 200 ppm/C; EIA_Code: E96; U/M: EA; SymbolVersion: 2009-05-29; PackageReference: 0603; RoHS: Y; Value1: 1%; MountType: SMT; Technology: Thick Film; Published: 2008-06-26; Publisher: Texas Instruments; LatestRevisionDate: 2015-04-17; ComponentLink1Description: Datasheet link; ComponentLink1URL: http://www.yageo.com/pdf/Pu-RC0603_51_PbFree_L_2.pdf; Supplier 1: Digi-Key; Supplier Part Number 1: 311-9.76KHRCT-ND; Supplier 2: Mouser; Supplier Part Number 2: 603-RC0603FR-079K76L
footprint 0603
pins: 1, 2

## RC0603FR-07220KL
designator R?, comment 220KΩ
RES, 220 k, 1%, 0.1 W, 0603; PartNumber: RC0603FR-07220KL; Manufacturer: Yageo America; CompType: Resistor; Value: 220k; Res_ohm: 220000; Tolerance_%: 1; Power_W: 0.1; Value2: 0.1W; VDC_V: 150; TempCo: 200 ppm/C; U/M: EA; SymbolVersion: 2009-05-29; PackageReference: 0603; RoHS: Y; Value_Code: 220k; Value1: 1%; MountType: SMT; Technology: Thick Film; Published: 2008-06-26; Publisher: Texas Instruments; LatestRevisionDate: 2015-04-17; ComponentLink1Description: Datasheet link; ComponentLink1URL: http://www.yageo.com/pdf/Pu-RC0603_51_PbFree_L_2.pdf; Supplier 1: Digi-Key; Supplier Part Number 1: 311-220KHRCT-ND; Supplier 2: Mouser; Supplier Part Number 2: 603-RC0603FR-07220KL; Supplier 3: Farnell; Supplier Part Number 3: 9238760
footprint 0603
pins: 1, 2

## RC0603JR-072K2L
designator R?, comment 2.2KΩ
RES, 2.2 k, 5%, 0.1 W, 0603; PartNumber: RC0603JR-072K2L; Manufacturer: Yageo America; CompType: Resistor; Value: 2.2k; Res_ohm: 2200; Value_Code: 2k20; Tolerance_%: 5; Power_W: 0.1; Value2: 0.1W; VDC_V: 50; TempCo: 100 ppm/C; EIA_Code: E24; U/M: EA; SymbolVersion: 2009-05-29; PackageReference: 0603; RoHS: Y; Value1: 5%; MountType: SMT; Technology: Thick Film; Published: 2008-06-26; Publisher: Texas Instruments; LatestRevisionDate: 2015-04-17; ComponentLink1Description: Datasheet link; ComponentLink1URL: http://www.yageo.com/pdf/Pu-RC0603_51_PbFree_L_2.pdf; Supplier 1: Digi-Key; Supplier Part Number 1: 311-2.2KGRCT-ND; Supplier 2: Mouser; Supplier Part Number 2: 603-RC0603JR-072K2L; Supplier 3: Farnell; Supplier Part Number 3: 9233423
footprint 0603
pins: 1, 2

## RC0603JR-074K7L
designator R?, comment 4.7KΩ
RES, 4.7 k, 5%, 0.1 W, 0603; PartNumber: RC0603JR-074K7L; Manufacturer: Yageo America; CompType: Resistor; Value: 4.7k; Res_ohm: 4700; Value_Code: 4k70; Tolerance_%: 5; Power_W: 0.1; Value2: 0.1W; VDC_V: 50; TempCo: 100 ppm/C; EIA_Code: E24; U/M: EA; SymbolVersion: 2009-05-29; PackageReference: 0603; RoHS: Y; Value1: 5%; MountType: SMT; Technology: Thick Film; Published: 2008-06-26; Publisher: Texas Instruments; LatestRevisionDate: 2015-04-17; ComponentLink1Description: Datasheet link; ComponentLink1URL: http://www.yageo.com/pdf/Pu-RC0603_51_PbFree_L_2.pdf; Supplier 1: Digi-Key; Supplier Part Number 1: 311-4.7KGRCT-ND; Supplier 2: Mouser; Supplier Part Number 2: 603-RC0603JR-074K7L; Supplier 3: Farnell; Supplier Part Number 3: 9233466
footprint 0603
pins: 1, 2

## RC0603JR-0715KL
designator R?, comment 15KΩ
RES, 15 k, 5%, 0.1 W, 0603; PartNumber: RC0603JR-0715KL; Manufacturer: Yageo America; CompType: Resistor; Value: 15k; Res_ohm: 15000; Value_Code: 15k0; Tolerance_%: 5; Power_W: 0.1; Value2: 0.1W; VDC_V: 50; TempCo: 100 ppm/C; EIA_Code: E24; U/M: EA; SymbolVersion: 2009-05-29; PackageReference: 0603; RoHS: Y; Value1: 5%; MountType: SMT; Technology: Thick Film; Published: 2008-06-26; Publisher: Texas Instruments; LatestRevisionDate: 2015-04-17; ComponentLink1Description: Datasheet link; ComponentLink1URL: http://www.yageo.com/pdf/Pu-RC0603_51_PbFree_L_2.pdf; Supplier 1: Digi-Key; Supplier Part Number 1: 311-15KGRCT-ND; Supplier 2: Mouser; Supplier Part Number 2: 603-RC0603JR-0715KL; Supplier 3: Farnell; Supplier Part Number 3: 9233520
footprint 0603
pins: 1, 2

## SN74LVC1G125DCK
designator U?
IC, Single Bus Buffer Gate With 3-States Outputs, OE  Active Low; Manufacturer: TI; Alternate Manufacturer: None; Area: 19,500; ComponentLink1URL: \\vette02\pmp_pcb\pcad_pdf's\sn74lvc1g125.pdf; SymbolVersion: 02/17/2009 08:57:26; PackageReference: DCK; ComponentHeight: 0.043; PartNumber: SN74LVC1G125DCK; Value: SN74LVC1G125DCK; ComponentLink1Description: AEO Datasheet Link
footprint DBV0005A_L (SOT23, 5-Leads, Body 3.05x1.75mm, Pitch 0.95mm, IPC High Density)
footprint DBV0005A_M (SOT23, 5-Leads, Body 3.05x1.75mm, Pitch 0.95mm, IPC Low Density)
footprint DBV0005A_N
pins: 1 ~OE, 2 A, 3 GND, 4 Y, 5 VCC

## THT-14-423-10
designator LBL?, comment Size: 0.65" x 0.20 "
Thermal Transfer Printable Labels, 0.650" W x 0.200" H - 10,000 per roll; Manufacturer: Brady; PartNumber: THT-14-423-10; SymbolCreator: a0412235; CompType: Label; SymbolVersion: 2012-06-12; ClassName: Label; RoHS: Y; PackageReference: PCB Label 0.650"H x 0.200"W; MountType: N/A; ComponentLink1Description: Web Page; ComponentLink1URL: http://www.bradyid.com/bradyid/pdpv/THT-14-423-10.html; Note: Size: 0.65" x 0.20 "; Publisher: Texas Instruments; LatestRevisionDate: 2015-02-11; Supplier 1: Farnell; Supplier Part Number 1: 2065596; Supplier 2: Newark; Supplier Part Number 2: 97C5133
footprint Label_650x200
text: PCB Label

## TI_Logo
designator Logo?, comment Texas Instruments  (no BOM)
Texas Instrument Corporate Signature; SymbolCreator: a0412235; SymbolVersion: 2011-08-22; ClassName: Logo; Published: 2009-03-03; Publisher: Texas Instruments; LatestRevisionDate: 2014-11-20
footprint TI_Stacked_Overlay_Small
text: PCB; LOGO

## TLV3201DBV
designator U?
40-ns, microPOWER, Push-Pull Output Comparators, DBV0005A; Manufacturer: Texas Instruments; CompType: IC; U/M: EA; SymbolVersion: 2008-11-25; PartNumber: TLV3201DBV; PackageReference: DBV0005A; MountType: SMT; ComponentLink1Description: Datasheet Link; ComponentLink1URL: http://www.ti.com/lit/ds/symlink/tlv3201.pdf; RoHS: Y; Publisher: Texas Instruments; LatestRevisionDate: 2015-04-24; Alternate Manufacturer: Texas Instruments
footprint DBV0005A_N
part A pins: 1 OUT (out), 3 IN+ (in), 4 IN- (in)
part B pins: 2 V- (power), 5 V+ (power)
1 alternate drawing of the same symbol

## TP_40_SMT
designator TP?  (value not drawn)
Test point, 40 mil SMT; Manufacturer: None; Value: None; ComponentHeight: None; SymbolVersion: 07/13/2010 09:50:06; area: *; PackageReference: None; PartNumber: None; ComponentLink1Description: AEO Datasheet Link
footprint TP_40_SMT
pins: 1

## TPS7A4201DGNT
designator U?
Single Output LDO, 50 mA, Adjustable 1.175 to 26 V Output, 7 to 28 V Input, 8-pin MSOP (DGN), -40 to 125 degC, Green (RoHS & no Sb/Br); Manufacturer: Texas Instruments; Alternate Manufacturer: None; Alternate PartNumber: Equivalent; Accuracy(%): 1; Iout(Max)(A): 0.05; Iq(Typ)(mA): 0.02; SubFamily: Single Channel LDO; Vdo(Typ)(mV): 290; Vin(Max)(V): 28; Vin(Min)(V): 7; Vout Adj(Max)(V): 26; Vout Adj(Min)(V): 1.161; DatasheetVersion: SBVS184; PackageVersion: 4073271/F; PackageReference: DGN0008B; PackageDescription: 8-Pin Plastic Small Outline, Body 3 x 3 mm, Pitch 0.65 mm; Supplier 1: Digi-Key; Supplier Part Number 1: 296-30185-2-ND; Supplier 2: Digi-Key; Supplier Part Number 2: 296-30185-1-ND; Supplier 3: Digi-Key; Supplier Part Number 3: 296-30185-6-ND; Supplier 4: Farnell; Supplier Part Number 4: 2078551; Supplier 5: Newark; Supplier Part Number 5: 82T9741; Supplier 6: Newark; Supplier Part Number 6: 76T8167; Supplier 7: Mouser; Supplier Part Number 7: 595-TPS7A4201DGNT; Eco-Plan: Green (RoHS & no Sb/Br); MountType: SMT; Code_JEDEC: MO-187; PartNumber: TPS7A4201DGNT; ComponentLink1Description: Manufacturer URL; ComponentLink1URL: http://www.ti.com/; ComponentLink2Description: Datasheet; ComponentLink2URL: http://www.ti.com/general/docs/lit/getliterature.tsp?genericPartNumber=TPS7A4201&fileType=pdf; ComponentLink3Description: Package Specification; ComponentLink3URL: http://www.ti.com/litv/pdf/mpds046e
footprint DGN0008B_N
footprint DGN0008B_L (TSOP, 8-Leads, Body 3.1x3.1mm, Pitch 0.65mm, Thermal Pad 1.98x1.88mm, IPC High Density)
footprint DGN0008B_M (TSOP, 8-Leads, Body 3.1x3.1mm, Pitch 0.65mm, Thermal Pad 1.9x1.88mm, IPC Low Density)
pins: 1 OUT (power) "Regulator output. A capacitor greater than 4.7 uF must be tied from this pin to ground to assure stability.", 2 FB (in) "This pin is the input to the control-loop error amplifier. It is used to set the output voltage of the device.", 4 GND (power) "Ground", 5 EN (in) "This pin turns the regulator on or off. If VEN >= VEN_HI the regulator is enabled. If VEN =< VEN_LO, the regulator is disabled. If not used, the EN pin can be connected to IN. Make sure that VEN =< VIN at all times.", 8 IN (power) "Input supply", 9 EP (power) "Solder to printed circuit board (PCB) to enhance thermal performance. NOTE: The PowerPAD is internally connected to GND. Although it can be left floating, it is highly recommended to connect the PowerPAD to the GND plane."

## TPS3700DDC
designator U?
IC,  High Voltage, Over-Under Voltage Supervisory; Manufacturer: TI; Alternate Manufacturer: None; Area: 23200; ComponentLink1URL: \\vette02\pmp_pcb\pcad_pdf's\; SymbolVersion: 02/06/2012 14:38:27; PackageReference: SOT-23; PartNumber: TPS3700DDC; Value: TPS3700DDC; ComponentLink1Description: AEO Datasheet Link
footprint SOT23-6
pins: 1 OUTA, 2 GND, 3 INA+, 4 INB-, 5 VDD, 6 OUTB
1 alternate drawing of the same symbol

## TPS51604DSG
designator U?
Synchronous Buck FET Driver Optimized for High-Frequency Applications, DSG0008A; Manufacturer: Texas Instruments; SymbolCreator: a0411947; CompType: IC; U/M: EA; SymbolVersion: 2013-03-22; PartNumber: TPS51604DSG; PackageReference: DSG0008A; MountType: SMT; ComponentLink1Description: Datasheet Link; ComponentLink1URL: http://www.ti.com/lit/ds/symlink/tps51604.pdf; RoHS: Y; Publisher: Texas Instruments; LatestRevisionDate: 2015-02-18; Alternate Manufacturer: Texas Instruments
footprint DSG0008A
pins: 1 BST (power), 2 PWM (in), 3 ~{SKIP} (in), 4 VDD (power), 5 DRVL (power), 6 GND (power), 7 SW (power), 8 DRVH (power), 9 PAD (power)

## TR-MMBT3906T-7-F
designator Q?, comment TR-MMBT3906T
Bipolar, PNP, -40V, -200mA, -200mW; PartNumber: MMBT3906T-7-F; Manufacturer: Diodes; Area: 11904; Value: MMBT3906T-7-F; ComponentLink1URL: \\vette02\pmp_pcb\pcad_pdf's\MMBT3906T.pdf; SymbolVersion: 10/27/2008 11:09:08; PackageReference: SOT-523; ComponentHeight: 0.031 inch; ComponentLink1Description: AEO Datasheet Link
footprint SOT-523
footprint SOT-523_2
pins: 1 B, 2 E, 3 C